# EAGLE library part SU5278A (library SU5278A)
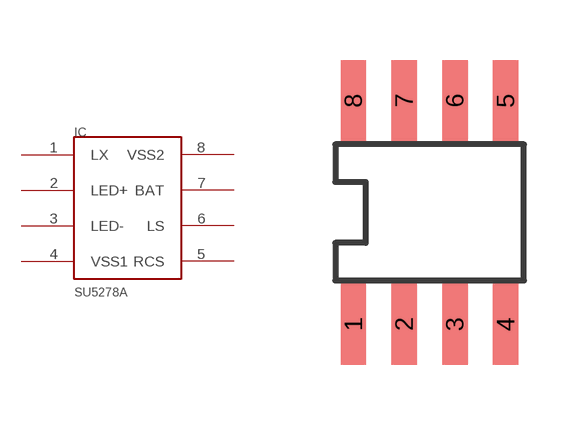
[diagram p0: symbol with the pads of SO8/150; footprint SO8/150]

Designator prefix IC

## SU5278A_SO8/150  [SO8/150]
1  LX  pas
2  LED+  pwr
3  LED-  pwr
4  VSS1  pwr
5  RCS  pas
6  LS  pas
7  BAT  pas
8  VSS2  pwr

## Footprint SO8/150 (pad centres in mm)
smd 0.635 x 2.032: 1 -1.905,-2.794; 2 -0.635,-2.794; 3 0.635,-2.794; 4 1.905,-2.794; 5 1.905,2.794; 6 0.635,2.794; 7 -0.635,2.794; 8 -1.905,2.794